# Altium footprint library Capacitors THD.PcbLib: 270 footprints (part 13 of 17)
Each footprint in its own frame and in the unit in brackets; x right, y up, seen from the top. Pads: shape width x height; smd on the part's side, far side on the other; paste and mask are expansions set on the pad; w line width, h text height; cw(c..) or ccw(c..) is an arc to the next point about the centre after c.
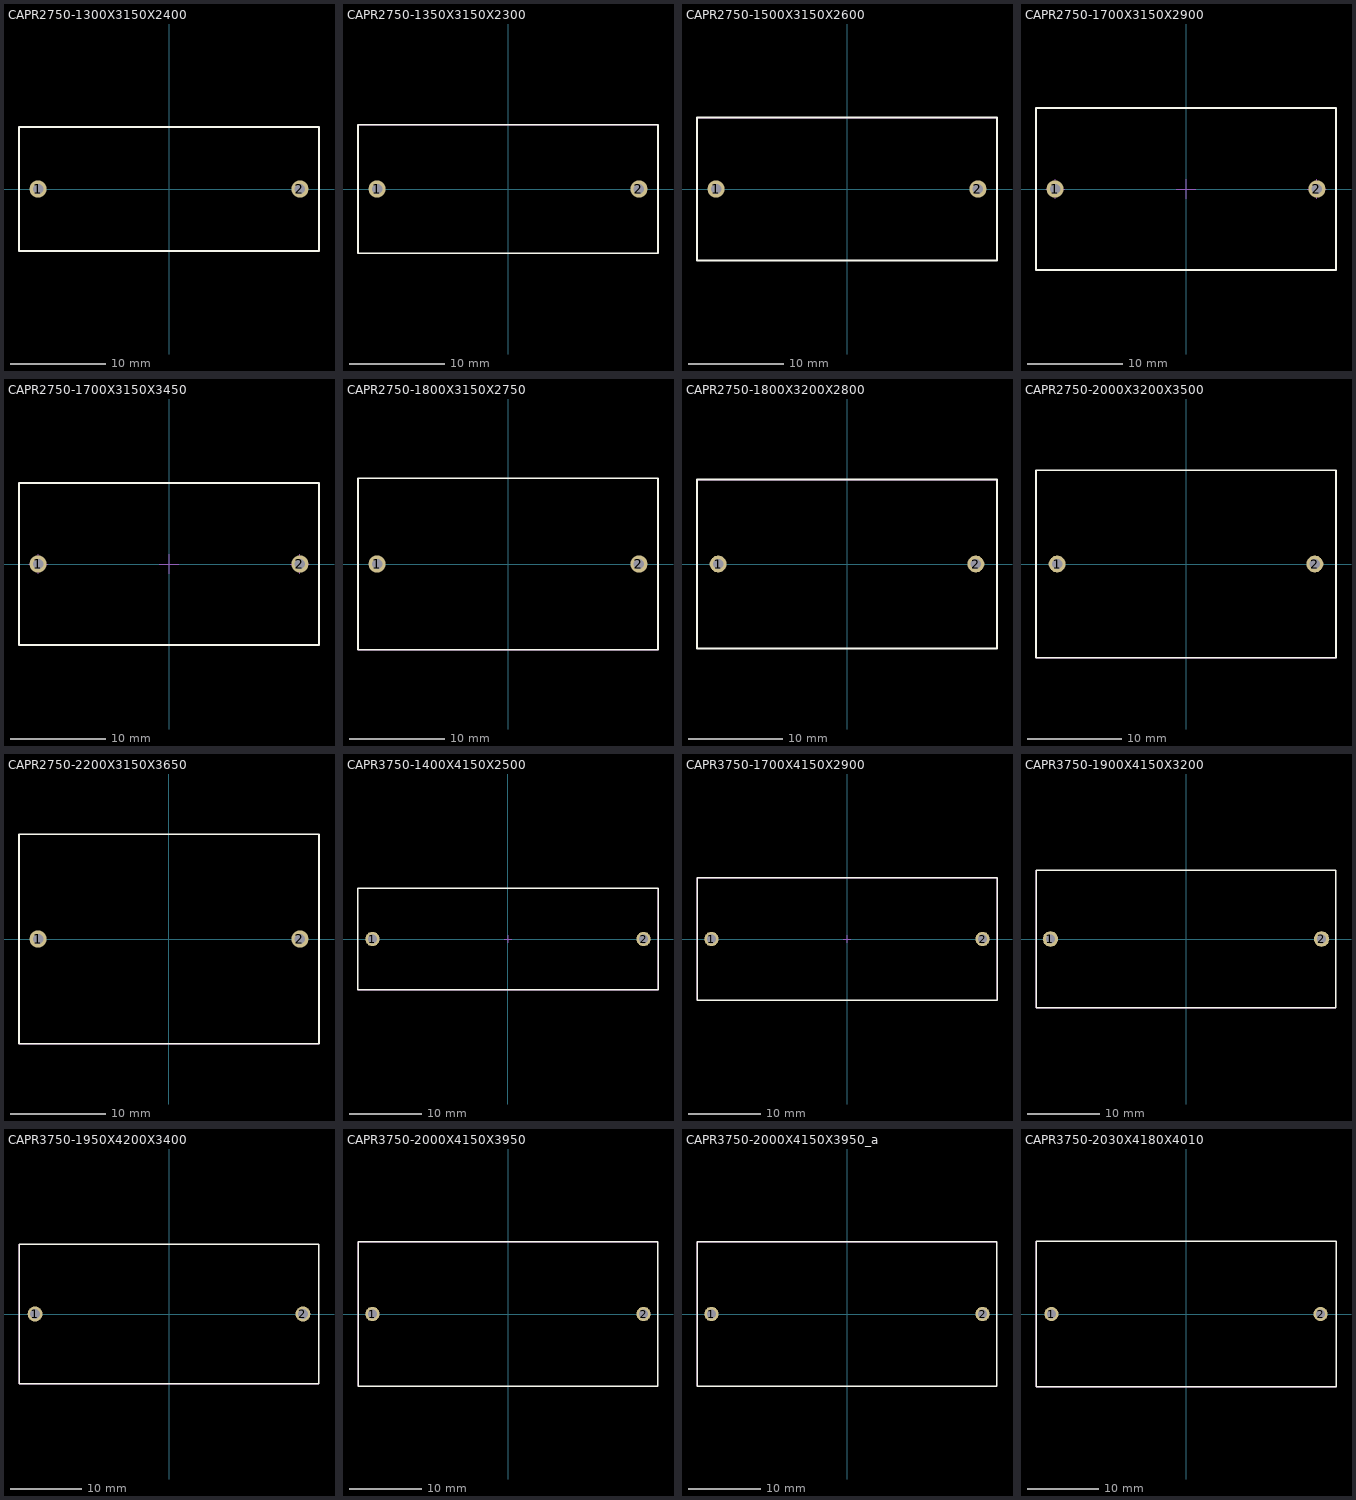
[diagram p12: the footprints below, top view; thin cyan lines are the x and y axes]

## CAPR2750-1300X3150X2400 [mm] "Capacitor Radial, Pin spacing 27.5mm - Body With 13mm X Body Length 31.5mm X Body Height 24mm"
height 24
pads (2):
  round 1.8 hole 1.1: 1(-13.75,0) 2(13.75,0)
Top Overlay:
  lines w0.2: -15.75,-6.5 -15.75,6.5 15.75,6.5 15.75,-6.5 -15.75,-6.5
Mechanical 13:
  lines w0.1: -15.75,-6.5 15.75,-6.5 15.75,6.5 -15.75,6.5 -15.75,-6.5
Mechanical 14:
  lines w0.1: -15.75,-6.5 -15.75,6.5 15.75,6.5 15.75,-6.5 -15.75,-6.5
3D body "CAPR2750-1300X3150X2400.stp": height 24, standoff -3.8, extent -15.749,-6.5 15.751,6.5

## CAPR2750-1350X3150X2300 [mm] "Capacitor Radial, Pin spacing 27.5mm - Body With 13.5mm X Body Length 31.5mm X Body Height 23mm"
height 23
pads (2):
  round 1.8 hole 1.1: 1(-13.75,0) 2(13.75,0)
Top Overlay:
  lines w0.2: -15.75,-6.75 15.75,-6.75 15.75,6.75 -15.75,6.75 -15.75,-6.75
Mechanical 13:
  lines w0.1: -15.75,-6.75 -15.75,6.75 15.75,6.75 15.75,-6.75 -15.75,-6.75
Mechanical 14:
  lines w0.1: -15.75,-6.75 15.75,-6.75 15.75,6.75 -15.75,6.75 -15.75,-6.75
3D body "CAPR2750-1350X3150X2300.stp": height 23, standoff -3.8, extent -15.749,-6.749 15.751,6.751

## CAPR2750-1500X3150X2600 [mm] "Capacitor Radial, Pin spacing 27.5mm - Body With 15.0mm X Body Length 31.5mm X Body Height 26mm"
height 26
pads (2):
  round 1.8 hole 1.1: 1(-13.75,0) 2(13.75,0)
Top Overlay:
  lines w0.2: -15.75,-7.5 15.75,-7.5 15.75,7.5 -15.75,7.5 -15.75,-7.5
Mechanical 13:
  lines w0.1: -15.75,-7.5 -15.75,7.5 15.75,7.5 15.75,-7.5 -15.75,-7.5
Mechanical 14:
  lines w0.1: -15.75,-7.5 15.75,-7.5 15.75,7.5 -15.75,7.5 -15.75,-7.5
3D body "CAPR2750-1500X3150X2600.stp": height 26, standoff -3.8, extent -15.749,-7.499 15.751,7.501

## CAPR2750-1700X3150X2900 [mm] "Capacitor Radial, Pin spacing 27.5mm - Body With 17mm X Body Length 31.5mm X Body Height 29mm"
height 29
pads (2):
  round 1.8 hole 1.1: 1(-13.75,0) 2(13.75,0)
Top Overlay:
  lines w0.2: -15.75,-8.5 15.75,-8.5 15.75,8.5 -15.75,8.5 -15.75,-8.5
Mechanical 8:
  lines w0.1: -14.75,0 -13.75,0 ; -13.75,-1 -13.75,0 ; -13.75,1 -13.75,0 ; -12.75,0 -13.75,0 ; -1,0 0,0 ; 0,-1 0,0 ; 0,1 0,0 ; 1,0 0,0 ; 12.75,0 13.75,0 ; 13.75,-1 13.75,0 ; 13.75,1 13.75,0 ; 14.75,0 13.75,0
Mechanical 14:
  lines w0.1: -15.75,-8.5 15.75,-8.5 15.75,8.5 -15.75,8.5 -15.75,-8.5
3D body "CAPR2750-1700X3150X2900.stp": height 29, standoff -3.8, extent -15.75,-8.5 15.75,8.5

## CAPR2750-1700X3150X3450 [mm] "Capacitor Radial, Pin spacing 27.5mm - Body With 17mm X Body Length 31.5mm X Body Height 34.5mm"
height 34.5
pads (2):
  round 1.8 hole 1.1: 1(-13.75,0) 2(13.75,0)
Top Overlay:
  lines w0.2: -15.75,-8.5 15.75,-8.5 15.75,8.5 -15.75,8.5 -15.75,-8.5
Mechanical 8:
  lines w0.1: -14.75,0 -13.75,0 ; -13.75,-1 -13.75,0 ; -13.75,1 -13.75,0 ; -12.75,0 -13.75,0 ; -1,0 0,0 ; 0,-1 0,0 ; 0,1 0,0 ; 1,0 0,0 ; 12.75,0 13.75,0 ; 13.75,-1 13.75,0 ; 13.75,1 13.75,0 ; 14.75,0 13.75,0
Mechanical 14:
  lines w0.1: -15.75,-8.5 15.75,-8.5 15.75,8.5 -15.75,8.5 -15.75,-8.5
3D body "CAPR2750-1700X3150X3450.stp": height 34.5, standoff -3.8, extent -15.75,-8.5 15.75,8.5

## CAPR2750-1800X3150X2750 [mm] "Capacitor Radial, Pin spacing 27.5mm - Body With 18mm X Body Length 31.5mm X Body Height 27.5mm"
height 27.5
pads (2):
  round 1.8 hole 1.1: 1(-13.75,0) 2(13.75,0)
Top Overlay:
  lines w0.2: -15.75,-9 -15.75,9 15.75,9 15.75,-9 -15.75,-9
Mechanical 13:
  lines w0.1: -15.75,-9 15.75,-9 15.75,9 -15.75,9 -15.75,-9
Mechanical 14:
  lines w0.1: -15.75,-9 -15.75,9 15.75,9 15.75,-9 -15.75,-9
3D body "CAPR2750-1800X3150X2750.stp": height 27.5, standoff -3.8, extent -15.749,-8.999 15.751,9.001

## CAPR2750-1800X3200X2800 [mm] "Capacitor Radial, Pin spacing 27.5mm - Body With 18mm X Body Length 32mm X Body Height 28mm"
height 28
pads (2):
  round 1.8 hole 1.1: 1(-13.75,0) 2(13.75,0)
Top Overlay:
  lines w0.2: -16,-9 16,-9 16,9 -16,9 -16,-9
Mechanical 13:
  lines w0.1: -16,-9 -16,9 16,9 16,-9 -16,-9
Mechanical 14:
  lines w0.1: -16,-9 16,-9 16,9 -16,9 -16,-9
3D body "CAPR2750-1800X3200X2800.stp": height 28, standoff -3.8, extent -15.999,-8.999 16.001,9.001

## CAPR2750-2000X3200X3500 [mm] "Capacitor Radial, Pin spacing 27.5mm - Body With 20mm X Body Length 32mm X Body Height 35mm"
height 35
pads (2):
  round 1.8 hole 1.1: 1(-13.75,0) 2(13.75,0)
Top Overlay:
  lines w0.2: -16,-10 16,-10 16,10 -16,10 -16,-10
Mechanical 13:
  lines w0.1: -16,-10 -16,10 16,10 16,-10 -16,-10
Mechanical 14:
  lines w0.1: -16,-10 16,-10 16,10 -16,10 -16,-10
3D body "CAPR2750-2000X3200X3500.stp": height 35, standoff -3.8, extent -15.999,-9.999 16.001,10.001

## CAPR2750-2200X3150X3650 [mm] "Capacitor Radial, Pin spacing 27.5mm - Body With 22mm X Body Length 31.5mm X Body Height 36.5mm"
height 36.5
pads (2):
  round 1.8 hole 1.1: 1(-13.75,0) 2(13.75,0)
Top Overlay:
  lines w0.2: 15.75,11 -15.75,11 -15.75,-11 15.75,-11 15.751,11.001
Mechanical 13:
  lines w0.1: -15.75,-11 -15.75,11 ; -15.749,-10.999 15.75,-10.999 15.75,11 ; -15.749,11.001 15.751,11.001
Mechanical 14:
  lines w0.1: -15.75,-11 -15.75,11 ; -15.749,-10.999 15.75,-10.999 15.75,11 ; -15.749,11.001 15.751,11.001
3D body "CAPR2750-2200X3150X3650.stp": height 36.5, standoff -3.8, extent -15.749,-10.999 15.751,11.001

## CAPR3750-1400X4150X2500 [mm] "Capacitor Radial, Pin spacing 37.5mm - Body Width 14mm X Body Length 41.5mm X Body Height 25mm"
height 25
pads (2):
  round 2 hole 1.3: 1(-18.75,0) 2(18.75,0)
Top Overlay:
  lines w0.2: -20.75,-7 20.75,-7 20.75,7 -20.75,7 -20.75,-7
Mechanical 8:
  lines w0.1: -19.25,0 -18.75,0 ; -18.75,-0.5 -18.75,0 ; -18.75,0.5 -18.75,0 ; -18.25,0 -18.75,0 ; -0.5,0 0,0 ; 0,-0.5 0,0 ; 0,0.5 0,0 ; 0.5,0 0,0 ; 18.25,0 18.75,0 ; 18.75,-0.5 18.75,0 ; 18.75,0.5 18.75,0 ; 19.25,0 18.75,0
Mechanical 14:
  lines w0.1: -20.75,-7 20.75,-7 20.75,7 -20.75,7 -20.75,-7
3D body "CAPR3750-1400X4150X2500.stp": height 25, standoff -3.8, extent -20.75,-7 20.75,7

## CAPR3750-1700X4150X2900 [mm] "Capacitor Radial, Pin spacing 37.5mm - Body Width 17mm X Body Length 41.5mm X Body Height 29mm"
height 29
pads (2):
  round 2 hole 1.3: 1(-18.75,0) 2(18.75,0)
Top Overlay:
  lines w0.2: -20.75,-8.5 -20.75,8.5 20.75,8.5 20.75,-8.5 -20.75,-8.5
Mechanical 8:
  lines w0.1: -19.25,0 -18.75,0 ; -18.75,-0.5 -18.75,0 ; -18.75,0.5 -18.75,0 ; -18.25,0 -18.75,0 ; -0.5,0 0,0 ; 0,-0.5 0,0 ; 0,0.5 0,0 ; 0.5,0 0,0 ; 18.25,0 18.75,0 ; 18.75,-0.5 18.75,0 ; 18.75,0.5 18.75,0 ; 19.25,0 18.75,0
Mechanical 14:
  lines w0.1: -20.75,-8.5 -20.75,8.5 20.75,8.5 20.75,-8.5 -20.75,-8.5
3D body "CAPR3750-1700X4150X2900.stp": height 29, standoff -3.8, extent -20.75,-8.5 20.75,8.5

## CAPR3750-1900X4150X3200 [mm] "Capacitor Radial, Pin spacing 37.5mm - Body With 19mm X Body Length 41.5mm X Body Height 32mm"
height 32
pads (2):
  round 2.15 hole 1.3: 1(-18.75,0) 2(18.75,0)
Top Overlay:
  lines w0.2: -20.75,-9.5 -20.75,9.5 20.75,9.5 20.75,-9.5 -20.75,-9.5
Mechanical 13:
  lines w0.1: -20.75,-9.5 20.75,-9.5 20.75,9.5 -20.75,9.5 -20.75,-9.5
Mechanical 14:
  lines w0.1: -20.75,-9.5 -20.75,9.5 20.75,9.5 20.75,-9.5 -20.75,-9.5
3D body "CAPR3750-1900X4150X3200.stp": height 32, standoff -3.8, extent -20.75,-9.5 20.75,9.5

## CAPR3750-1950X4200X3400 [mm] "Capacitor Radial, Pin spacing 37.5mm - Body With 19.5mm X Body Length 42mm X Body Height 34mm"
height 34
pads (2):
  round 2.1 hole 1.4: 1(-18.75,0) 2(18.75,0)
Top Overlay:
  lines w0.2: -21,-9.75 21,-9.75 21,9.75 -21,9.75 -21,-9.75
Mechanical 13:
  lines w0.1: -21,-9.75 -21,9.75 21,9.75 21,-9.75 -21,-9.75
Mechanical 14:
  lines w0.1: -21,-9.75 21,-9.75 21,9.75 -21,9.75 -21,-9.75
3D body "CAPR3750-1950X4200X3400.stp": height 34, standoff -3.8, extent -21,-9.75 21,9.75

## CAPR3750-2000X4150X3950 [mm] "Capacitor Radial, Pin spacing 37.5mm - Body Width 20mm X Body Length 41.5mm X Body Height 39.5mm"
height 39.5
pads (2):
  round 2 hole 1.3: 1(-18.75,0) 2(18.75,0)
Top Overlay:
  lines w0.2: -20.75,-10 20.75,-10 20.75,10 -20.75,10 -20.75,-10
Mechanical 13:
  lines w0.1: -20.75,-10 -20.75,10 20.75,10 20.75,-10 -20.75,-10
Mechanical 14:
  lines w0.1: -20.75,-10 20.75,-10 20.75,10 -20.75,10 -20.75,-10
3D body "CAPR3750-2000X4150X3950.stp": height 39.5, standoff -3.8, extent -20.75,-10 20.75,10

## CAPR3750-2000X4150X3950_a [mm] "Capacitor Radial, Pin spacing 37.5mm - Body Width 20mm X Body Length 41.5mm X Body Height 39.5mm"
height 39.5
pads (2):
  round 2 hole 1.3: 1(-18.75,0) 2(18.75,0)
Top Overlay:
  lines w0.2: -20.75,-10 -20.75,10 20.75,10 20.75,-10 -20.75,-10
Mechanical 13:
  lines w0.1: -20.75,-10 20.75,-10 20.75,10 -20.75,10 -20.75,-10
Mechanical 14:
  lines w0.1: -20.75,-10 -20.75,10 20.75,10 20.75,-10 -20.75,-10
3D body "CAPR3750-2000X4150X3950_a.stp": height 39.5, standoff -3.8, extent -20.75,-10 20.75,10

## CAPR3750-2030X4180X4010 [mm] "Capacitor Radial, Pin spacing 37.5mm - Body With 20.3mm X Body Length 41.8mm X Body Height 40.1mm"
height 40.1
pads (2):
  round 2 hole 1.3: 1(-18.75,0) 2(18.75,0)
Top Overlay:
  lines w0.2: -20.9,-10.15 -20.9,10.15 20.9,10.15 20.9,-10.15 -20.9,-10.15
Mechanical 14:
  lines w0.1: 20.9,-10.15 -20.9,-10.15 -20.9,10.15 20.9,10.15
3D body "CAPR3750-2030X4180X4010.stp": height 40.1, standoff -3.8, extent -20.9,-10.15 20.9,10.15